# EAGLE library part LM75A (library alvie)
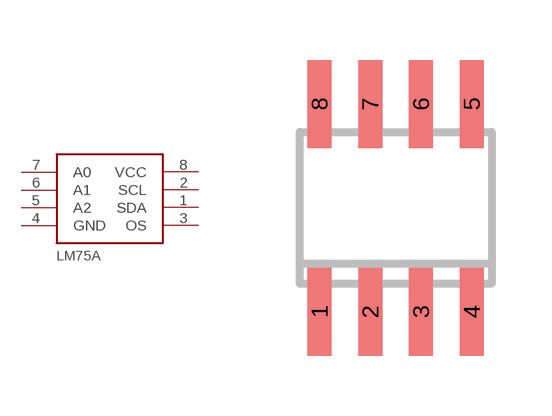
[diagram p7: symbol with the pads of SOIC8; footprint SOIC8]

Designator prefix -

## LM75A  [SOIC8]
1  SDA
2  SCL
3  OS  out
4  GND  pwr
5  A2  in
6  A1  in
7  A0  in
8  VCC  pwr

## Footprint SOIC8 (pad centres in mm)
smd 0.6 x 2.2: 1 -1.905,-2.6; 2 -0.635,-2.6; 3 0.635,-2.6; 4 1.905,-2.6; 5 1.905,2.6; 6 0.635,2.6; 7 -0.635,2.6; 8 -1.905,2.6